# Altium footprint library 主控板器件PCB封装库.PcbLib: 18 footprints (part 2 of 2)
Each footprint in its own frame and in the unit in brackets; x right, y up, seen from the top. Pads: shape width x height; smd on the part's side, far side on the other; paste and mask are expansions set on the pad; w line width, h text height; cw(c..) or ccw(c..) is an arc to the next point about the centre after c.
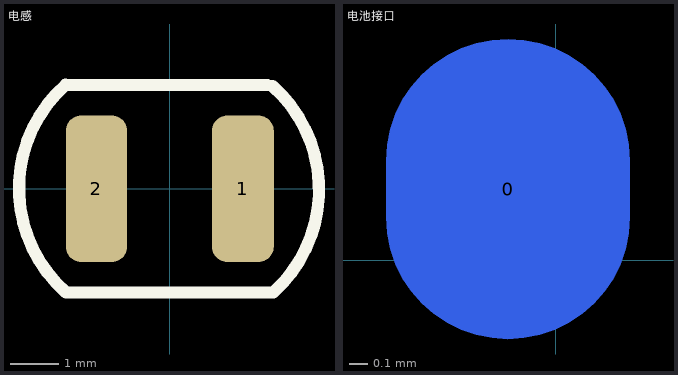
[diagram p1: the footprints below, top view; thin cyan lines are the x and y axes]

## 电感 [mil]
pads (2):
  rrect50% 50.74x120.48 smd: 1(60,0)
  rrect50% 50x120.48 smd: 2(-60,0)
Top Overlay:
  lines w10: -85.27,85.31 ccw(c-9.83,0.27) -85,-85 85,-85 ccw(c8.75,-0.69) 84.35,84.21 ; -85,85 80,85
3D body: height 129.92, standoff 0, extent -92.77,-79.74 81.22,77.74

## 电池接口 [mm]
pads (1):
  oval 1.3x1.6 smd far side: 0(-0.254,0.381)